# EAGLE library part MINI-USB2.0-RECEPT-5POS-4-LEGS-(ST-USB-013A) (library Seeed-Connector)
320010014
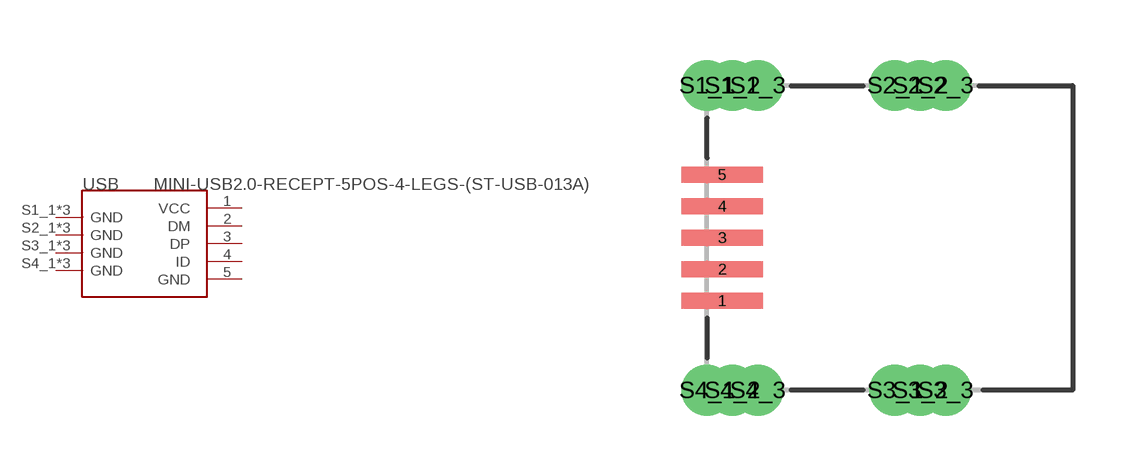
[diagram p7: symbol with the pads of MINIUSB5+4P-0.8-90D; footprint MINIUSB5+4P-0.8-90D]

Designator prefix USB

## MINI-USB2.0-RECEPT-5POS-4-LEGS-(ST-USB-013A) (MPN: ST-USB-013A; VALUE: ST-USB-013A)  [MINIUSB5+4P-0.8-90D]
1  VCC
2  DM
3  DP
4  ID
5  GND
S1_1  GND
S1_2  GND
S1_3  GND
S2_1  GND
S2_2  GND
S2_3  GND
S3_1  GND
S3_2  GND
S3_3  GND
S4_1  GND
S4_2  GND
S4_3  GND

## Footprint MINIUSB5+4P-0.8-90D (pad centres in mm)
smd 2.032 x 0.406: 1 0.381,-1.575; 2 0.381,-0.787; 3 0.381,0; 4 0.381,0.787; 5 0.381,1.575
drill 0.635 pad 1.27: S1_1 0,3.81; S1_2 0.635,3.81; S1_3 1.27,3.81; S2_1 4.699,3.81; S2_2 5.334,3.81; S2_3 5.969,3.81; S3_1 4.699,-3.81; S3_2 5.334,-3.81; S3_3 5.969,-3.81; S4_1 0,-3.81; S4_2 0.635,-3.81; S4_3 1.27,-3.81